# Altium footprint library 251R15S100JV4E.PcbLib: 3 footprints
Each footprint in its own frame and in the unit in brackets; x right, y up, seen from the top. Pads: shape width x height; smd on the part's side, far side on the other; paste and mask are expansions set on the pad; w line width, h text height; cw(c..) or ccw(c..) is an arc to the next point about the centre after c.
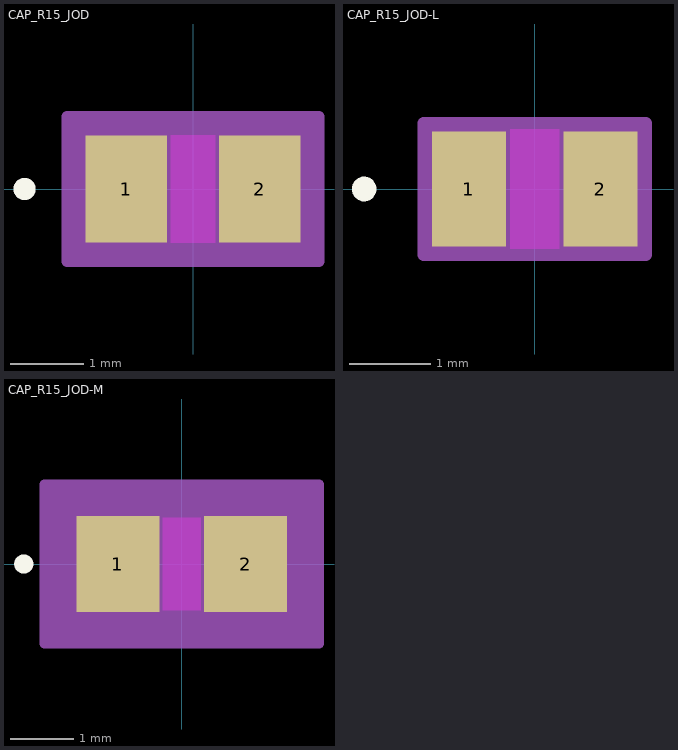
[diagram p0: the footprints below, top view; thin cyan lines are the x and y axes]

## CAP_R15_JOD [mil]
pads (2):
  rect 44x58 smd paste+0 mask+0: 1(-36,0) 2(36,0)
Top Layer keep-out:
  region: -12,-27 -12,27 12,27 12,-27
Top Overlay:
  circle w6: c-91,0 r3
  text ".Designator" at -137.5,-25 h50
Keep-Out Layer:
  region: -12,-29 -12,29 12,29 12,-29
Mechanical 13:
  circle w1: c-31,0 r3
  lines w1: -44,-29 -44,29 ; -44,-29 -14,-29 -14,29 -44,29 ; -44,-29 44,-29 ; -44,-29 -44,29 ; -44,29 44,29 ; 44,-29 14,-29 14,29 44,29 ; 44,-29 44,29 ; 44,-29 44,29
  text ".Designator" at -137.5,-25 h50
Mechanical 15:
  region: 68,-39 -68,-39 -68,39 68,39
  lines w6: -68,-39 -68,39 68,39 68,-39 -68,-39
3D body "CAP_R15_JOD.step": height 45.98, standoff 0, extent -44.02,-29.02 44.02,29.02

## CAP_R15_JOD-L [mil]
pads (2):
  rect 36x56 smd paste+0 mask+0: 1(-32,0) 2(32,0)
Top Layer keep-out:
  region: -12,-27 -12,27 12,27 12,-27
Top Overlay:
  circle w6: c-83,0 r3
  text ".Designator" at -137.5,-25 h50
Keep-Out Layer:
  region: -12,-29 -12,29 12,29 12,-29
Mechanical 13:
  circle w1: c-27,0 r3
  lines w1: -44,-29 -44,29 ; -44,-29 -14,-29 -14,29 -44,29 ; -44,-29 44,-29 ; -44,-29 -44,29 ; -44,29 44,29 ; 44,-29 14,-29 14,29 44,29 ; 44,-29 44,29 ; 44,-29 44,29
  text ".Designator" at -137.5,-25 h50
Mechanical 15:
  region: 54,-32 -54,-32 -54,32 54,32
  lines w6: -54,-32 -54,32 54,32 54,-32 -54,-32
3D body "CAP_R15_JOD.step": height 45.98, standoff 0, extent -44.02,-29.02 44.02,29.02

## CAP_R15_JOD-M [mil]
pads (2):
  rect 52x60 smd paste+0 mask+0: 1(-40,0) 2(40,0)
Top Layer keep-out:
  region: -12,-27 -12,27 12,27 12,-27
Top Overlay:
  circle w6: c-99,0 r3
  text ".Designator" at -137.5,-25 h50
Keep-Out Layer:
  region: -12,-29 -12,29 12,29 12,-29
Mechanical 13:
  circle w1: c-35,0 r3
  lines w1: -44,-29 -44,29 ; -44,-29 -14,-29 -14,29 -44,29 ; -44,-29 44,-29 ; -44,-29 -44,29 ; -44,29 44,29 ; 44,-29 14,-29 14,29 44,29 ; 44,-29 44,29 ; 44,-29 44,29
  text ".Designator" at -137.5,-25 h50
Mechanical 15:
  region: 86,-50 -86,-50 -86,50 86,50
  lines w6: -86,-50 -86,50 86,50 86,-50 -86,-50
3D body "CAP_R15_JOD.step": height 45.98, standoff 0, extent -44.02,-29.02 44.02,29.02